# Altium footprint library xbowtie.PcbLib: 47 footprints (part 3 of 3)
Each footprint in its own frame and in the unit in brackets; x right, y up, seen from the top. Pads: shape width x height; smd on the part's side, far side on the other; paste and mask are expansions set on the pad; w line width, h text height; cw(c..) or ccw(c..) is an arc to the next point about the centre after c.
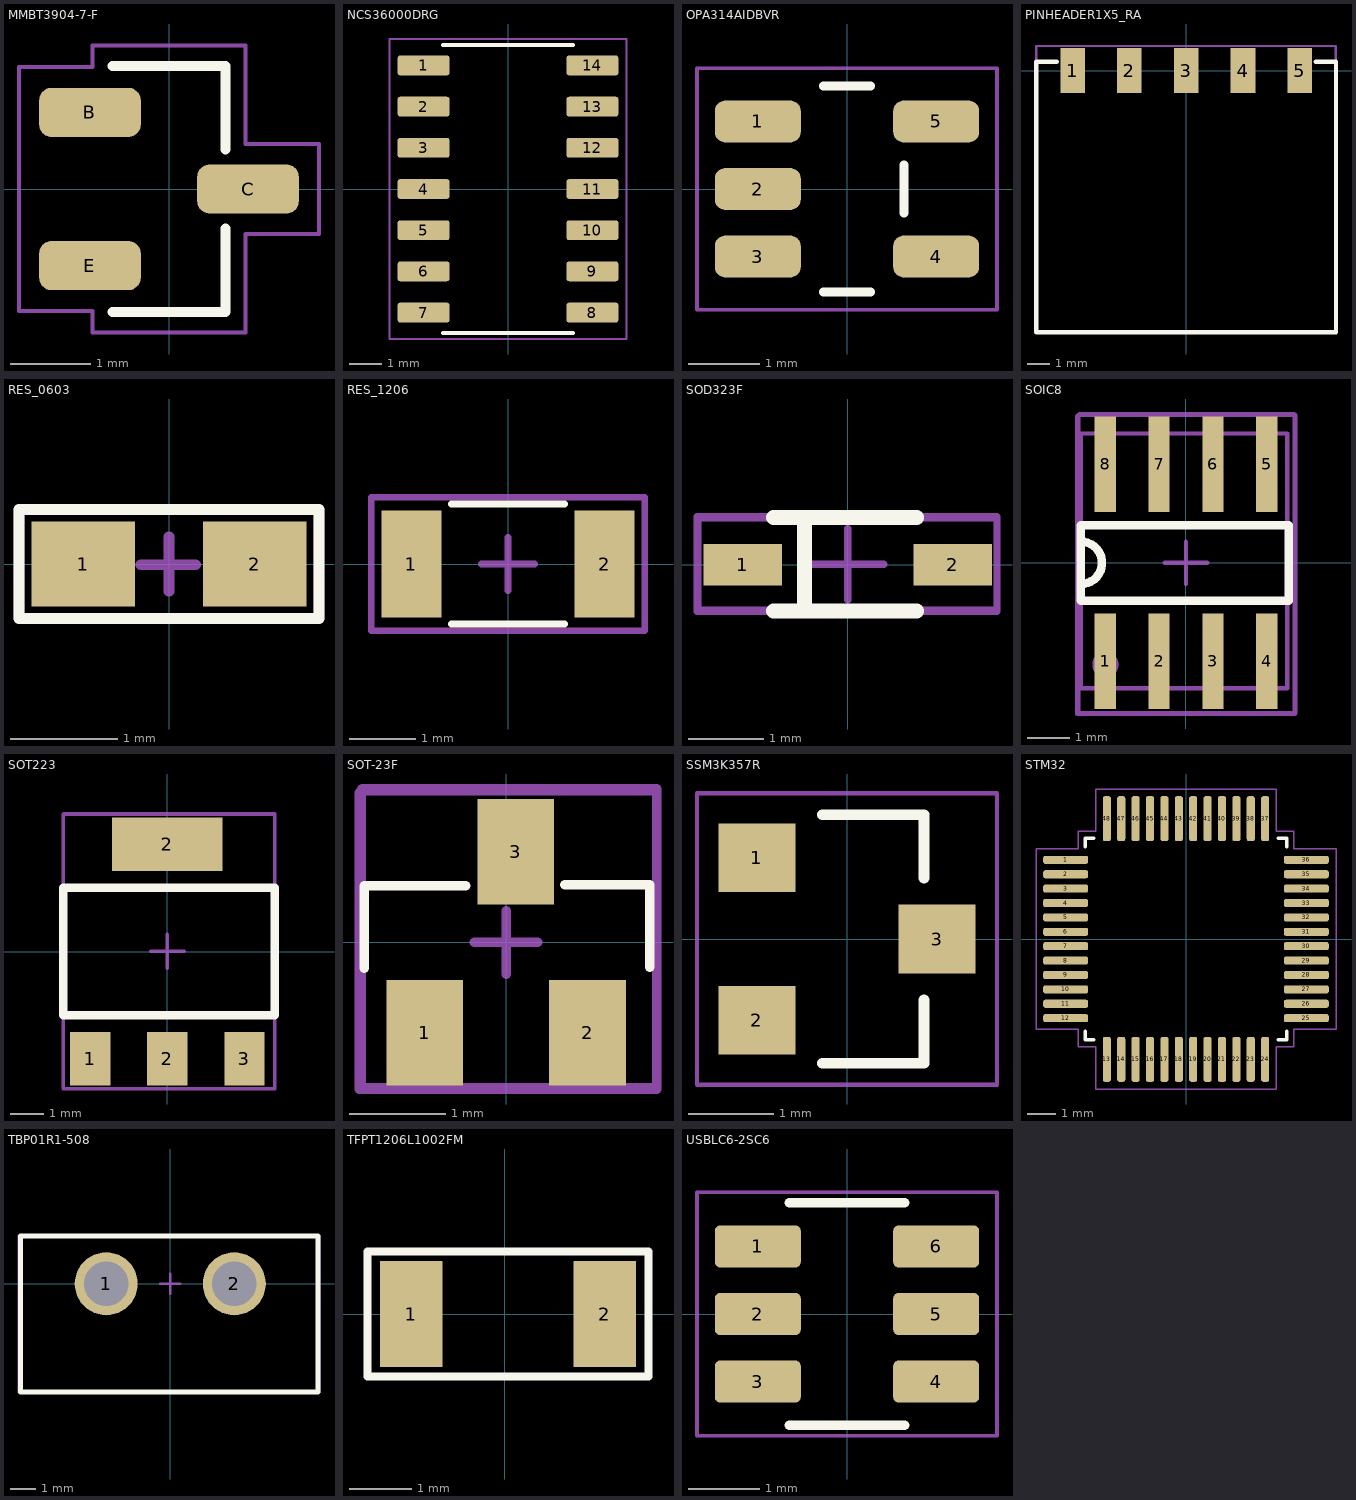
[diagram p2: the footprints below, top view; thin cyan lines are the x and y axes]

## MMBT3904-7-F [mm]
pads (3):
  rrect50% 1.26x0.61 smd: B(-0.98,0.95) C(0.98,0) E(-0.98,-0.95)
Top Overlay:
  lines w0.127: -0.7,-1.525 0.7,-1.525 0.7,-0.489 ; -0.7,1.525 0.7,1.525 0.7,0.489
Bottom 3D Body (Mech15):
  lines w0.05: -1.86,-1.51 -0.95,-1.51 -0.95,-1.78 0.95,-1.78 0.95,-0.56 1.86,-0.56 1.86,0.56 0.95,0.56 0.95,1.78 -0.95,1.78 -0.95,1.51 -1.86,1.51 -1.86,-1.51
3D body "MMBT3904-7-F (1).STEP": height 1.12, standoff 0, extent -1.21,-1.5 1.21,1.5

## NCS36000DRG [mm]
pads (14):
  rrect25% 1.6x0.61 smd: 1(-2.605,3.81) 2(-2.605,2.54) 3(-2.605,1.27) 4(-2.605,0) 5(-2.605,-1.27) 6(-2.605,-2.54) 7(-2.605,-3.81) 8(2.605,-3.81) 9(2.605,-2.54) 10(2.605,-1.27) 11(2.605,0) 12(2.605,1.27) 13(2.605,2.54) 14(2.605,3.81)
Top Overlay:
  lines w0.127: -2,-4.435 2,-4.435 ; -2,4.435 2,4.435
Bottom 3D Body (Mech15):
  lines w0.05: -3.655,-4.625 -3.655,4.625 3.655,4.625 3.655,-4.625 -3.655,-4.625
3D body "step_temp.STEP": height 1.76, standoff -0.04, extent -3,-4.28 3,4.28

## OPA314AIDBVR [mm]
pads (5):
  rrect50% 1.21x0.59 smd: 1(-1.255,0.95) 2(-1.255,0) 3(-1.255,-0.95) 4(1.255,-0.95) 5(1.255,0.95)
Top Overlay:
  lines w0.127: -0.33,-1.45 0.33,-1.45 ; -0.33,1.45 0.33,1.45 ; 0.8,-0.335 0.8,0.335
Bottom 3D Body (Mech15):
  lines w0.05: -2.11,-1.7 -2.11,1.7 2.11,1.7 2.11,-1.7 -2.11,-1.7
3D body "step_temp.STEP": height 1.45, standoff 0, extent -1.4,-1.45 1.4,1.45

## PINHEADER1X5_RA [mm]
pads (5):
  rect 1.1x2 smd mask+0.05: 1(-5.08,0) 2(-2.54,0) 3(0,0) 4(2.54,0) 5(5.08,0)
Top Overlay:
  lines w0.2: -5.8,0.4 -6.7,0.4 -6.7,-11.7 6.7,-11.7 6.7,0.4 5.8,0.4
Top Component Center:
  lines w0.1: -0.461,-0.007 0.439,-0.007 ; 0,-0.45 0,0.45 ; -6.7,-11.7 6.7,-11.7 6.7,1.1 -6.7,1.1 -6.7,-11.7
Top Designator:
  lines w0.1: -6.72,-11.68 -6.72,1.1 6.69,1.1 6.69,-11.68 -6.72,-11.68
  text ".Designator" at -3.23,-4.43 h1.5
3D body "SMH-105-02-L-S.stp": height 2.41, standoff -0.01, extent -6.604,-11.609 6.604,0.329

## RES_0603 [mil]
pads (2):
  rect 38x31 smd mask+1.97: 1(-31.5,0) 2(31.5,0)
Top Overlay:
  lines w3.94: -55,-20 -55,20 55,20 55,-20 -55,-20
Top Component Center:
  lines w3.94: -10.27,-0.23 9.73,-0.23 ; 0,-10 0,10 ; -55,-20 -55,20 55,20 55,-20 -55,-20
Top Designator:
  lines w3.94: -55,-20 -55,20 55,20 55,-20 -55,-20
  text ".Designator" at -40.06,-9.5 h19.68
3D body "ERJ-U03J5R6V.STEP": height 17.72, standoff 0, extent -31.5,-16.14 31.5,15.35

## RES_1206 [mm]
pads (2):
  rect 0.9x1.6 smd mask+0.05: 1(-1.45,0) 2(1.45,0)
Top Overlay:
  lines w0.1: -0.85,-0.9 0.85,-0.9 ; -0.85,0.9 0.85,0.9
Top Component Center:
  lines w0.1: -0.4,0 0.4,0 ; 0,-0.4 0,0.4 ; -2.05,-1 2.05,-1 2.05,1 -2.05,1 -2.05,-1
Top Designator:
  lines w0.1: -2.05,-1 2.05,-1 2.05,1 -2.05,1 -2.05,-1
  text ".Designator" at -1.25,-0.483 h0.8
3D body "ERJ-U08J154V.STEP": height 0.6, standoff 0, extent -1.57,-0.79 1.63,0.81

## SOD323F [mm]
pads (2):
  rect 1.05x0.55 smd mask+0.05: 1(-1.4,0) 2(1.4,0)
Top Overlay:
  lines w0.2: -0.99,-0.62 0.92,-0.62 ; -0.99,0.63 0.92,0.63 ; -0.58,-0.61 -0.58,0.62
Top Component Center:
  lines w0.1: -0.47,0.01 0.48,0.01 ; 0,-0.47 0,0.48 0,0.02 -0.01,0.01 ; 0.01,0.01 0,0 ; -0.01,0.01 0,0 ; -0.01,0.01 0,0 ; -2.01,-0.62 1.99,-0.62 1.99,0.64 -2.01,0.64 -2.01,-0.62
Top Designator:
  lines w0.1: -2,-0.61 1.99,-0.61 1.99,0.63 -2,0.63 -2,-0.61
  text ".Designator" at -1.6,-0.327 h0.7
3D body "1N4148WS.STEP": height 1.1, standoff 0, extent -1.3,-0.625 1.2,0.625

## SOIC8 [mm]
pads (8):
  rect 0.5x2.25 smd mask+0.05: 1(-1.905,-2.325) 2(-0.635,-2.325) 3(0.635,-2.325) 4(1.905,-2.325) 5(1.905,2.325) 6(0.635,2.325) 7(-0.635,2.325) 8(-1.905,2.325)
Top Overlay:
  lines w0.2: -2.48,-0.87 -2.48,-0.89 ; -2.48,-0.5 ccw(c-2.48,0) -2.48,0.5 ; -2.48,-0.89 -2.48,0.89 2.42,0.89 2.42,-0.89 -2.48,-0.89
Mechanical 1:
  circle w0.4: c-1.91,-2.4 r0.1
  circle w0.4: c-1.895,-2.401 r0.1
  lines w0.1: -2.48,-2.96 2.39,-2.96 2.39,3.05 -2.48,3.05 -2.48,-2.96
Top Component Center:
  lines w0.1: -0.5,0 0.5,0 ; 0,-0.5 0,0.5 ; -2.54,-3.55 2.58,-3.55 2.58,3.48 2.55,3.51 -2.51,3.51 -2.54,3.48 -2.54,-3.55
Top Designator:
  lines w0.1: -2.565,-3.565 2.565,-3.565 2.565,3.495 -2.525,3.495 -2.565,3.455 -2.565,-3.565
  text ".Designator" at 0.167,-1.8 h1
3D body "STM32G031J6M6.STEP": height 1.75, standoff 0, extent -2.5,-2.96 2.4,3.04

## SOT223 [mm]
pads (4):
  rect 1.2x1.6 smd mask+0.05: 1(-2.3,-3.2) 2(0,-3.2) 3(2.3,-3.2)
  rect 3.3x1.6 smd mask+0.05: 2(0,3.2)
Top Overlay:
  lines w0.254: -3.1,-1.9 3.2,-1.9 3.2,1.9 -3.1,1.9 -3.1,-1.9
Top Component Center:
  lines w0.1: -3.1,-4.1 3.2,-4.1 3.2,-2.05 3.2,2.05 3.2,4.1 -3.1,4.1 ; -3.1,-4.05 -3.1,-2.025 -3.1,2.025 -3.1,4.05 ; -3.097,-4.088 3.203,-4.088 3.203,-2.038 3.203,2.062 3.203,4.112 -3.097,4.112 ; -3.097,-4.038 -3.097,-2.013 -3.097,2.037 -3.097,4.062 ; -0.5,0 0.5,0 ; -0.497,0.012 0.503,0.012 ; 0,-0.5 0,0.5 ; 0.003,-0.488 0.003,0.512
Top Designator:
  lines w0.1: -3.1,-4.1 3.2,-4.1 3.2,-2.05 3.2,2.05 3.2,4.1 -3.1,4.1 ; -3.1,-4.05 -3.1,-2.025 -3.1,2.025 -3.1,4.05
  text ".Designator" at -1.646,-0.238 h1.52
3D body "LD1117S50TR.STEP": height 1.8, standoff 0, extent -3.25,-3.499 3.25,3.499

## SOT-23F [mm]
pads (3):
  rect 0.8x1.1 smd mask+0.05: 1(-0.85,-0.945) 2(0.85,-0.945) 3(0.1,0.945)
Top Overlay:
  lines w0.1: -1.48,-0.27 -1.48,0.59 -0.42,0.59 ; 0.61,0.6 1.5,0.6 1.5,-0.26
Top Component Center:
  lines w0.1: -1.53,1.56 -1.53,-1.53 1.57,-1.53 1.57,1.58 -1.51,1.58 ; -0.33,0 0.33,0 ; 0,-0.33 0,0.33
Top Designator:
  lines w0.1: -1.51,-1.52 1.57,-1.52 1.57,1.6 -1.5,1.6 -1.51,1.59 -1.51,-1.52
  text ".Designator" at -0.56,-0.437 h1
3D body "SOT23-3.stp": height 1.2, standoff 0.02, extent -1.5,-1.418 1.5,1.418

## SSM3K357R [mm]
pads (3):
  rect 0.9x0.8 smd: 1(-1.05,0.95) 2(-1.05,-0.95) 3(1.05,0)
Top Overlay:
  lines w0.127: -0.286,-1.45 0.9,-1.45 0.9,-0.714 ; -0.286,1.45 0.9,1.45 0.9,0.714
Bottom 3D Body (Mech15):
  lines w0.05: -1.75,-1.7 -1.75,1.7 1.75,1.7 1.75,-1.7 -1.75,-1.7
3D body "SSM3K357R,LF (1).STEP": height 0.88, standoff 0, extent -1.2,-1.45 1.2,1.45

## STM32 [mm]
pads (48):
  rrect50% 1.56x0.28 smd: 1(-4.18,2.75) 2(-4.18,2.25) 3(-4.18,1.75) 4(-4.18,1.25) 5(-4.18,0.75) 6(-4.18,0.25) 7(-4.18,-0.25) 8(-4.18,-0.75) 9(-4.18,-1.25) 10(-4.18,-1.75) 11(-4.18,-2.25) 12(-4.18,-2.75) 25(4.18,-2.75) 26(4.18,-2.25) 27(4.18,-1.75) 28(4.18,-1.25) 29(4.18,-0.75) 30(4.18,-0.25) 31(4.18,0.25) 32(4.18,0.75) 33(4.18,1.25) 34(4.18,1.75) 35(4.18,2.25) 36(4.18,2.75)
  rrect50% 0.28x1.56 smd: 13(-2.75,-4.18) 14(-2.25,-4.18) 15(-1.75,-4.18) 16(-1.25,-4.18) 17(-0.75,-4.18) 18(-0.25,-4.18) 19(0.25,-4.18) 20(0.75,-4.18) 21(1.25,-4.18) 22(1.75,-4.18) 23(2.25,-4.18) 24(2.75,-4.18) 37(2.75,4.18) 38(2.25,4.18) 39(1.75,4.18) 40(1.25,4.18) 41(0.75,4.18) 42(0.25,4.18) 43(-0.25,4.18) 44(-0.75,4.18) 45(-1.25,4.18) 46(-1.75,4.18) 47(-2.25,4.18) 48(-2.75,4.18)
Top Overlay:
  lines w0.127: -3.5,-3.21 -3.5,-3.5 -3.21,-3.5 ; -3.5,3.21 -3.5,3.5 -3.21,3.5 ; 3.21,-3.5 3.5,-3.5 3.5,-3.21 ; 3.21,3.5 3.5,3.5 3.5,3.21
Bottom 3D Body (Mech15):
  lines w0.05: -5.21,-3.14 -3.75,-3.14 -3.75,-3.75 -3.14,-3.75 -3.14,-5.21 3.14,-5.21 3.14,-3.75 3.75,-3.75 3.75,-3.14 5.21,-3.14 5.21,3.14 3.75,3.14 3.75,3.75 3.14,3.75 3.14,5.21 -3.14,5.21 -3.14,3.75 -3.75,3.75 -3.75,3.14 -5.21,3.14 -5.21,-3.14
3D body "step_temp.STEP": height 1.59, standoff -0.01, extent -4.5,-4.5 4.5,4.5

## TBP01R1-508 [mm]
pads (2):
  round 2.5 hole 1.75 mask+0.05: 1(-2.54,0) 2(2.54,0)
Top Overlay:
  lines w0.2: -5.94,-4.3 5.86,-4.3 5.86,1.9 -5.94,1.9 -5.94,-4.3
Top Component Center:
  lines w0.1: -0.4,0 0.4,0 ; 0,-0.4 0,0.4 ; -5.94,-4.3 -5.94,1.9 5.86,1.9 5.86,-4.3 -5.94,-4.3
Top Designator:
  lines w0.1: -6,-4.3 5.9,-4.3 5.9,1.9 -6,1.9 -6,-4.3
  text ".Designator" at -3.5,-1.6 h1.5
3D body "CUI_DEVICES_TBP01R1-508-02BE.step": height 8.5, standoff -4, extent -5.92,-10.2 5.84,1.8

## TFPT1206L1002FM [mm]
pads (2):
  rect 1x1.7 smd paste-2539.97 mask+0.076: 1(-1.5,0) 2(1.6,0)
Top Overlay:
  lines w0.125: -2.2,-1 2.3,-1 2.3,1 -2.2,1 -2.2,-1
3D body "TR_1002FM_VIS.step": height 0.66, standoff 0, extent -1.6,-0.826 1.6,0.826

## USBLC6-2SC6 [mm]
pads (6):
  rrect25% 1.21x0.59 smd: 1(-1.255,0.95) 2(-1.255,0) 3(-1.255,-0.95) 4(1.255,-0.95) 5(1.255,0) 6(1.255,0.95)
Top Overlay:
  lines w0.127: -0.813,-1.565 0.813,-1.565 ; -0.813,1.565 0.813,1.565
Bottom 3D Body (Mech15):
  lines w0.05: -2.11,-1.713 2.11,-1.713 2.11,1.713 -2.11,1.713 -2.11,-1.713
3D body "step_temp.STEP": height 1.43, standoff -0.02, extent -1.4,-1.462 1.4,1.462